# Altium schematic symbol library 2318_Métronome_Electronique_Library.SCHLIB: 42 symbols
Pins are listed as number, name and electrical type; pins without a type are passive.

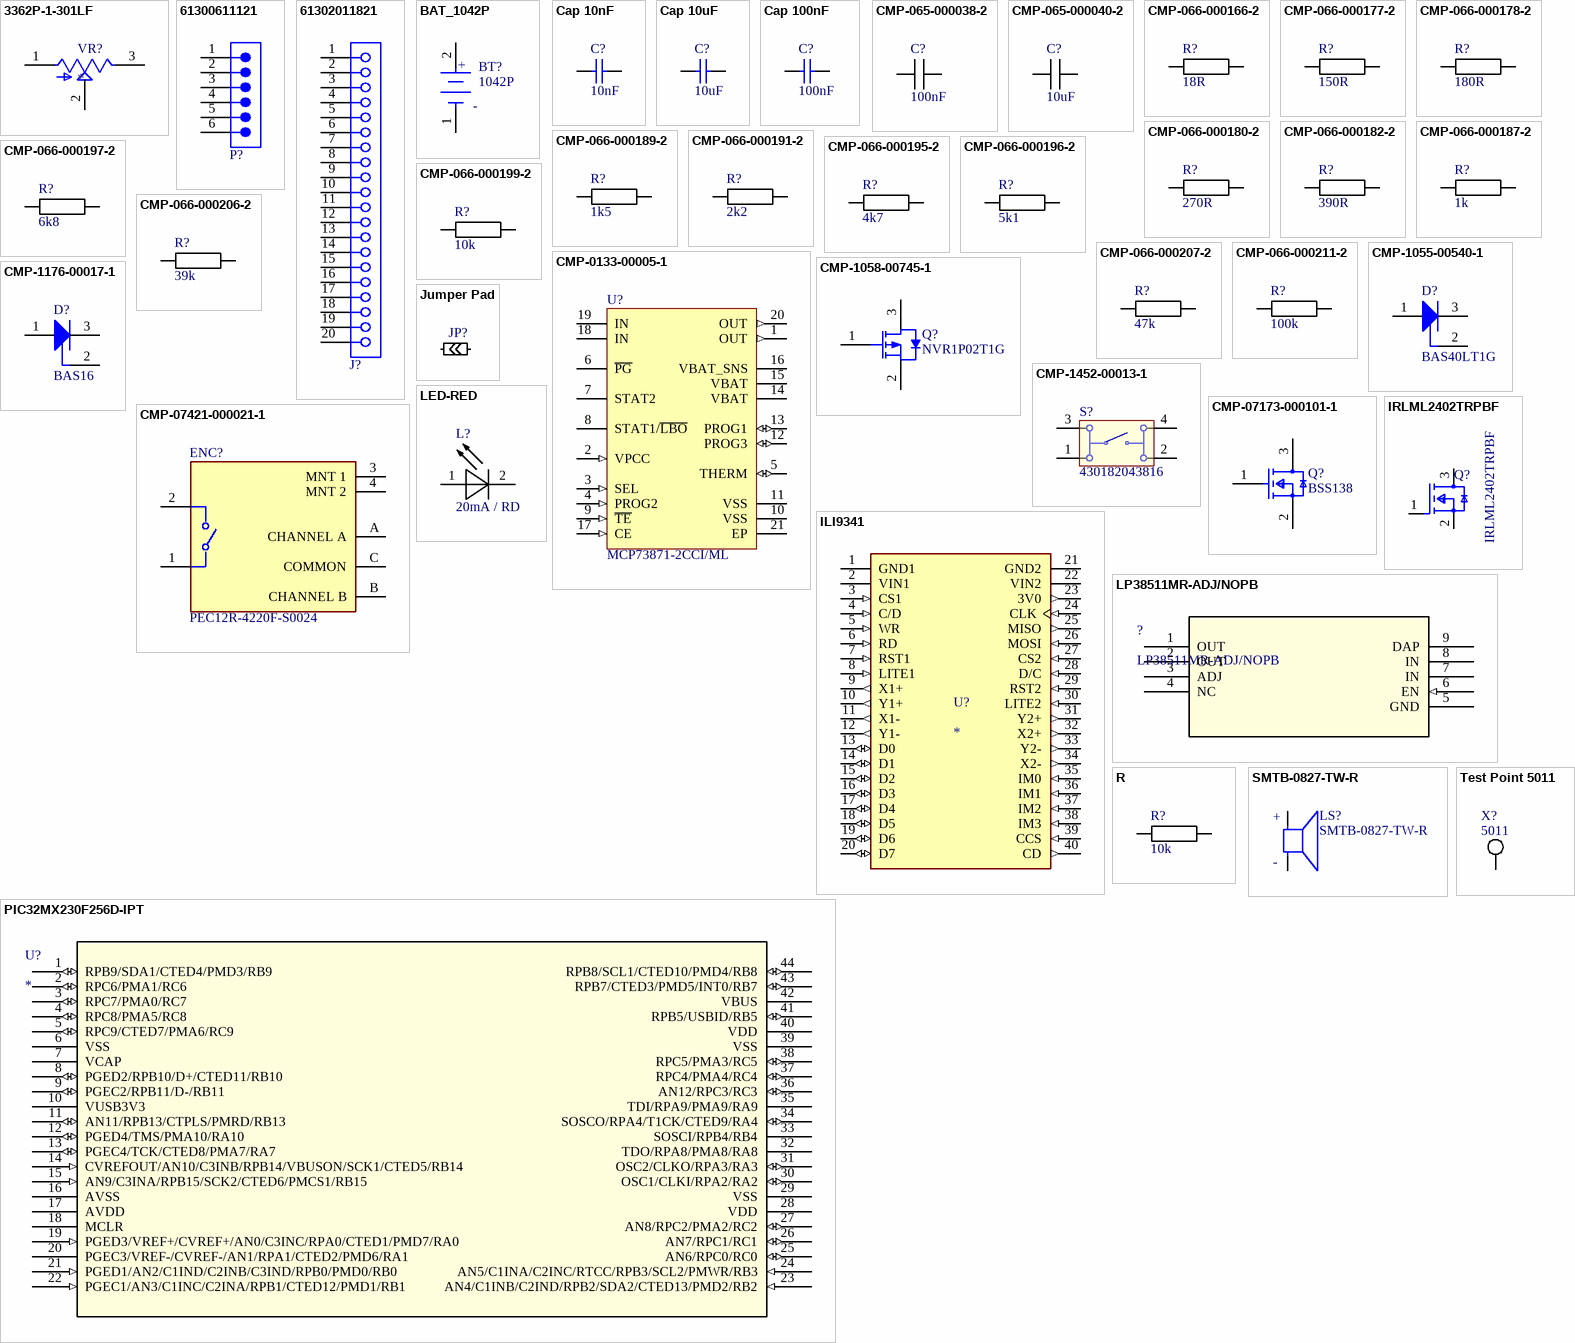
[diagram p0: symbols 3362P-1-301LF to Test Point 5011]

## 3362P-1-301LF
designator VR?
300 Ohms 0.5W, 1/2W PC Pins Through Hole Trimmer Potentiometer Cermet 1 Turn Top Adjustment; MF: Bourns; MP: 3362P-1-301LF; Package: 3362P-1 Bourns Inc.; Price: None; Availability: Bad; Check_prices: https://www.snapeda.com/parts/3362P-1-301LF/Bourns/view-part/620352/?ref=eda; SnapEDA_Link: https://www.snapeda.com/parts/3362P-1-301LF/Bourns/view-part/620352/?ref=snap; Value: *
footprint TRIM_3362P-1-301LF
pins: 1 CCW, 2 WIPER, 3 CW

## 61300611121
designator P?  (value not drawn)
WR-PHD Pin Header, THT, Vertical, pitch 2.54mm, 1 Row, 6P; Manufacturer: Wurth Elektronik; Contact Resistance: 20mOhm; Rated Current: 3A; Working Voltage: 250V; Withstanding Voltage: 500V; Manufacturer Part Number: 61300611121; Category: Board-to-Board Connectors; Match Code: WR-PHD; ComponentLink1Description: Website Link; ComponentLink1URL: https://www.we-online.com/redexpert/article/61300611121?ad; ComponentLink2Description: Datasheet Link; ComponentLink2URL: https://www.we-online.com/redexpert/spec/61300611121?ad; Mount: Through Hole; Operating Temperature Max: 105°C; Operating Temperature Min: -40°C; Packaging: Bag; Gender: Pin Header; Number of Pins: 6; Number of Rows: 1; Orientation: Vertical; Pitch: 2.54mm
footprint 61300611121 (Pin Header, pitch 2.54 mm, THT, Vertical, single row, 6p)
pins: 1, 2, 3, 4, 5, 6

## 61302011821
designator J?  (value not drawn)
WR-PHD Socket Header, THT, Vertical, pitch 2.54mm, 1 Row, 20P; Manufacturer: Wurth Elektronik; Contact Resistance: 20mOhm; Rated Current: 3A; Working Voltage: 250V; Withstanding Voltage: 500V; Manufacturer Part Number: 61302011821; Category: Board-to-Board Connectors; Match Code: WR-PHD; ComponentLink1Description: Website Link; ComponentLink1URL: https://www.we-online.com/redexpert/article/61302011821?ad; ComponentLink2Description: Datasheet Link; ComponentLink2URL: https://www.we-online.com/redexpert/spec/61302011821?ad; Mount: Through Hole; Operating Temperature Max: 105°C; Operating Temperature Min: -40°C; Packaging: Tray; Gender: Socket Header; Number of Pins: 20; Number of Rows: 1; Orientation: Vertical; Pitch: 2.54mm
footprint 61302011821 (Socket Header, Pitch 2.54 mm, THT, Vertical, single row, 20p)
pins: 1, 2, 3, 4, 5, 6, 7, 8, 9, 10, 11, 12, 13, 14, 15, 16, 17, 18, 19, 20

## BAT_1042P
designator BT?, comment 1042P
BATTERY HOLDER 18650 SMD TAB; Manufacturer: Keystone Electronics; Number of Cells: 1; Max Operating Temperature: 145°C; Termination: SMD/SMT; Mount: Surface Mount; Min Operating Temperature: -50°C; Package Quantity: 200; Packaging: Tray; Lead Free: Lead Free; Manufacturer Part Number: 1042P
footprint BAT_1042P
pins: 1 C, 2 A
text: +; -

## Cap 10nF
designator C?, comment value 10nF  (hidden comment: Cap)
Capacitor SMD, 10nF, (0805 M); Published: 8-Jun-2000; LatestRevisionDate: 17-Jul-2002; LatestRevisionNote: Re-released for DXP Platform.; PackageReference: RAD-0.3; Publisher: Altium Limited; PackageDescription: Radial Cap, Thru-Hole; 2 Leads; 0.3 in Pin Spacing
footprint CAPC2012X08M (Chip Capacitor, 2-Leads, Body 2.00x1.25mm, IPC Low Density)
pins: 1, 2

## Cap 10uF
designator C?, comment value 10uF  (hidden comment: Cap)
Capacitor SMD, 10uF, (0805 M); Published: 8-Jun-2000; LatestRevisionDate: 17-Jul-2002; LatestRevisionNote: Re-released for DXP Platform.; PackageReference: RAD-0.3; Publisher: Altium Limited; PackageDescription: Radial Cap, Thru-Hole; 2 Leads; 0.3 in Pin Spacing
footprint CAPC2012X08M (Chip Capacitor, 2-Leads, Body 2.00x1.25mm, IPC Low Density)
pins: 1, 2

## Cap 100nF
designator C?, comment value 100nF  (hidden comment: Cap)
Capacitor SMD,  100nF, (0805 M); Published: 8-Jun-2000; LatestRevisionDate: 17-Jul-2002; LatestRevisionNote: Re-released for DXP Platform.; PackageReference: RAD-0.3; Publisher: Altium Limited; PackageDescription: Radial Cap, Thru-Hole; 2 Leads; 0.3 in Pin Spacing
footprint CAPC2012X08M (Chip Capacitor, 2-Leads, Body 2.00x1.25mm, IPC Low Density)
pins: 1, 2

## CMP-065-000038-2
designator C?, comment 100nF
CAPC 100nF X7R 50V 10% 2012 (0805 INCH); Manufacturer Number: C2012X7R1H104K085AA; Manufacturer: TDK; IsStocked: 1; TemperatureRange: -55°C to +125°C; PN: PN-747862; Supplier Part Number 1: FAB.0805_C 100n; Supplier Price 1: 0.0200; Voltage: 50V; Dielectric: X7R; Value: 100nF; SubCategory: Condensateurs ceramique; Category: Passives; Tolerance: ±10%; Supplier 1: ETML; Manufacturer Part Number: C2012X7R1H104K085AA; Component Type: Passives
footprint CAPC2012X08M (Chip Capacitor, 2-Leads, Body 2.00x1.25mm, IPC Low Density)
pins: 1, 2

## CMP-065-000040-2
designator C?, comment 10uF
CAPC 10uF X5R 16V 10% 2012 (0805 INCH); Manufacturer Number: C2012X5R1C106K085AC; Manufacturer: TDK; IsStocked: 1; Value: 10µF; PN: PN-654987; TemperatureRange: -55°C to +85°C; Tolerance: ±10%; Voltage: 16V; SubCategory: Condensateurs ceramique; Dielectric: X5R; Supplier Part Number 1: FAB.0805_C 10u; Category: Passives; Supplier Price 1: 0.0360; Supplier 1: ETML; Manufacturer Part Number: C2012X5R1C106K085AC; Component Type: Passives
footprint CAPC2012X08M (Chip Capacitor, 2-Leads, Body 2.00x1.25mm, IPC Low Density)
pins: 1, 2

## CMP-066-000166-2
designator R?, comment 18R
RES 18ohm  ±1% 0.125W 2012 (0805 INCH); Manufacturer: Yageo; Manufacturer Number: RC0805FR-0718RL; TemperatureRange: -55°C to 155°C; TemperatureCoeff: ±200ppm/°C; Voltage: 150V; Value: 18; PN: PN-496535; IsStocked: 1; Category: Passives; Power: 0.125W; Supplier Price 1: 0.0200; Tolerance: ±1%; Supplier 1: ETML; Supplier Part Number 1: FAB.0805_R 18R; SubCategory: Resistances couche epaisse; Manufacturer Part Number: RC0805FR-0718RL; Component Type: Passives
footprint RESC2012X06M (Chip Resistor, 2-Leads, Body 2.00x1.25mm, IPC Low Density)
pins: 1, 2

## CMP-066-000177-2
designator R?, comment 150R
RES 150ohm  ±1% 0.125W 2012 (0805 INCH); Manufacturer: Yageo; Manufacturer Number: RC0805FR-07150RL; Value: 150; TemperatureRange: -55°C to 155°C; Voltage: 150V; TemperatureCoeff: ±200ppm/°C; PN: PN-455993; IsStocked: 1; Supplier Price 1: 0.0200; Tolerance: ±1%; SubCategory: Resistances couche epaisse; Power: 0.125W; Supplier Part Number 1: FAB.0805_R 150R; Supplier 1: ETML; Category: Passives; Manufacturer Part Number: RC0805FR-07150RL; Component Type: Passives
footprint RESC2012X06M (Chip Resistor, 2-Leads, Body 2.00x1.25mm, IPC Low Density)
pins: 1, 2

## CMP-066-000178-2
designator R?, comment 180R
RES 180ohm  ±1% 0.125W 2012 (0805 INCH); Manufacturer: Yageo; Manufacturer Number: RC0805FR-07180RL; Value: 180; TemperatureRange: -55°C to 155°C; TemperatureCoeff: ±200ppm/°C; PN: PN-125035; Voltage: 150V; IsStocked: 1; SubCategory: Resistances couche epaisse; Power: 0.125W; Tolerance: ±1%; Supplier 1: ETML; Supplier Price 1: 0.0200; Supplier Part Number 1: FAB.0805_R 180R; Category: Passives; Manufacturer Part Number: RC0805FR-07180RL; Component Type: Passives
footprint RESC2012X06M (Chip Resistor, 2-Leads, Body 2.00x1.25mm, IPC Low Density)
pins: 1, 2

## CMP-066-000180-2
designator R?, comment 270R
RES 270ohm  ±1% 0.125W 2012 (0805 INCH); Manufacturer Number: RC0805FR-07270RL; Manufacturer: Yageo; Voltage: 150V; IsStocked: 1; Value: 270; TemperatureRange: -55°C to 155°C; TemperatureCoeff: ±200ppm/°C; PN: PN-363118; SubCategory: Resistances couche epaisse; Supplier Part Number 1: FAB.0805_R 270R; Category: Passives; Power: 0.125W; Supplier 1: ETML; Supplier Price 1: 0.0200; Tolerance: ±1%; Manufacturer Part Number: RC0805FR-07270RL; Component Type: Passives
footprint RESC2012X06M (Chip Resistor, 2-Leads, Body 2.00x1.25mm, IPC Low Density)
pins: 1, 2

## CMP-066-000182-2
designator R?, comment 390R
RES 390ohm  ±1% 0.125W 2012 (0805 INCH); Manufacturer Number: RC0805FR-07390RL; Manufacturer: Yageo; Voltage: 150V; TemperatureCoeff: ±200ppm/°C; TemperatureRange: -55°C to 155°C; IsStocked: 1; Value: 390; PN: PN-601201; Tolerance: ±1%; Power: 0.125W; Supplier Part Number 1: FAB.0805_R 390R; Supplier 1: ETML; SubCategory: Resistances couche epaisse; Category: Passives; Supplier Price 1: 0.0200; Manufacturer Part Number: RC0805FR-07390RL; Component Type: Passives
footprint RESC2012X06M (Chip Resistor, 2-Leads, Body 2.00x1.25mm, IPC Low Density)
pins: 1, 2

## CMP-066-000187-2
designator R?, comment 1k
RES 1.0kohm  ±1% 0.125W 2012 (0805 INCH); Manufacturer: Yageo; Manufacturer Number: RC0805FR-071KL; PN: PN-746409; TemperatureRange: -55°C to 155°C; IsStocked: 1; TemperatureCoeff: ±200ppm/°C; Voltage: 150V; Supplier 1: ETML; Value: 1k; SubCategory: Resistances couche epaisse; Supplier Price 1: 0.0200; Supplier Part Number 1: FAB.0805_R 1k0; Category: Passives; Tolerance: ±1%; Power: 0.125W; Manufacturer Part Number: RC0805FR-071KL; Component Type: Passives
footprint RESC2012X06M (Chip Resistor, 2-Leads, Body 2.00x1.25mm, IPC Low Density)
pins: 1, 2

## CMP-066-000189-2
designator R?, comment 1k5
RES 1.5kohm  ±1% 0.125W 2012 (0805 INCH); Manufacturer Number: RC0805FR-071K5L; Manufacturer: Yageo; PN: PN-984492; Value: 1.5k; TemperatureRange: -55°C to 155°C; TemperatureCoeff: ±200ppm/°C; IsStocked: 1; Voltage: 150V; Supplier Price 1: 0.0200; Supplier Part Number 1: FAB.0805_R 1k5; Power: 0.125W; Supplier 1: ETML; Tolerance: ±1%; SubCategory: Resistances couche epaisse; Category: Passives; Manufacturer Part Number: RC0805FR-071K5L; Component Type: Passives
footprint RESC2012X06M (Chip Resistor, 2-Leads, Body 2.00x1.25mm, IPC Low Density)
pins: 1, 2

## CMP-066-000191-2
designator R?, comment 2k2
RES 2.2kohm  ±1% 0.125W 2012 (0805 INCH); Manufacturer Number: RC0805FR-072K2L; Manufacturer: Yageo; IsStocked: 1; Voltage: 150V; PN: PN-322576; Value: 2.2k; TemperatureCoeff: ±200ppm/°C; TemperatureRange: -55°C to 155°C; Supplier Price 1: 0.0200; SubCategory: Resistances couche epaisse; Supplier 1: ETML; Tolerance: ±1%; Category: Passives; Power: 0.125W; Supplier Part Number 1: FAB.0805_R 2k2; Manufacturer Part Number: RC0805FR-072K2L; Component Type: Passives
footprint RESC2012X06M (Chip Resistor, 2-Leads, Body 2.00x1.25mm, IPC Low Density)
pins: 1, 2

## CMP-066-000195-2
designator R?, comment 4k7
RES 4.7kohm  ±1% 0.125W 2012 (0805 INCH); Manufacturer: Yageo; Manufacturer Number: RC0805FR-074K7L; Value: 4.7k; Voltage: 150V; IsStocked: 1; PN: PN-798742; TemperatureCoeff: ±200ppm/°C; TemperatureRange: -55°C to 155°C; Power: 0.125W; Supplier Price 1: 0.0200; Category: Passives; Supplier Part Number 1: FAB.0805_R 4k7; Supplier 1: ETML; SubCategory: Resistances couche epaisse; Tolerance: ±1%; Manufacturer Part Number: RC0805FR-074K7L; Component Type: Passives
footprint RESC2012X06M (Chip Resistor, 2-Leads, Body 2.00x1.25mm, IPC Low Density)
pins: 1, 2

## CMP-066-000196-2
designator R?, comment 5k1
RES 5.1kohm (0805 INCH); Manufacturer: Yageo; Manufacturer Number: RC0805FR-075K1L; Manufacturer Part Number: RC0805FR-075K6L; Power: 0.125W; Tolerance: ±1%; IsStocked: 1; PN: PN-467784; TemperatureRange: -55°C to 155°C; Value: 5.1k; Voltage: 150V; TemperatureCoeff: ±200ppm/°C; Supplier Part Number 1: FAB.0805_R 5k1; Supplier Price 1: 0.0800; Supplier 1: ES; Category: Passives; SubCategory: Resistances couche epaisse; Component Type: Passives
footprint RESC2012X06M (Chip Resistor, 2-Leads, Body 2.00x1.25mm, IPC Low Density)
pins: 1, 2

## CMP-066-000197-2
designator R?, comment 6k8
RES 6.8kohm  ±1% 0.125W 2012 (0805 INCH); Manufacturer Number: RC0805FR-076K8L; Manufacturer: Yageo; PN: PN-136826; TemperatureRange: -55°C to 155°C; Value: 6.8k; Voltage: 150V; TemperatureCoeff: ±200ppm/°C; IsStocked: 1; Category: Passives; SubCategory: Resistances couche epaisse; Supplier 1: ETML; Supplier Price 1: 0.0200; Power: 0.125W; Supplier Part Number 1: FAB.0805_R 6k8; Tolerance: ±1%; Manufacturer Part Number: RC0805FR-076K8L; Component Type: Passives
footprint RESC2012X06M (Chip Resistor, 2-Leads, Body 2.00x1.25mm, IPC Low Density)
pins: 1, 2

## CMP-066-000199-2
designator R?, comment 10k
RES 10kohm  ±1% 0.125W 2012 (0805 INCH); Manufacturer Number: RC0805FR-0710KL; Manufacturer: Yageo; PN: PN-374909; TemperatureCoeff: ±200ppm/°C; Voltage: 150V; TemperatureRange: -55°C to 155°C; IsStocked: 1; Tolerance: ±1%; Category: Passives; Value: 10k; Supplier Price 1: 0.0200; Supplier Part Number 1: FAB.0805_R 10k; Supplier 1: ETML; SubCategory: Resistances couche epaisse; Power: 0.125W; Manufacturer Part Number: RC0805FR-0710KL; Component Type: Passives
footprint RESC2012X06M (Chip Resistor, 2-Leads, Body 2.00x1.25mm, IPC Low Density)
pins: 1, 2

## CMP-066-000206-2
designator R?, comment 39k
RES 39kohm  ±1% 0.125W 2012 (0805 INCH); Manufacturer: Yageo; Manufacturer Number: RC0805FR-0739KL; IsStocked: 1; TemperatureRange: -55°C to 155°C; TemperatureCoeff: ±200ppm/°C; PN: PN-758200; Voltage: 150V; Category: Passives; Value: 39k; Supplier Price 1: 0.0200; Power: 0.125W; SubCategory: Resistances couche epaisse; Supplier 1: ETML; Tolerance: ±1%; Supplier Part Number 1: FAB.0805_R 39k; Manufacturer Part Number: RC0805FR-0739KL; Component Type: Passives
footprint RESC2012X06M (Chip Resistor, 2-Leads, Body 2.00x1.25mm, IPC Low Density)
pins: 1, 2

## CMP-066-000207-2
designator R?, comment 47k
RES 47kohm  ±1% 0.125W 2012 (0805 INCH); Manufacturer Number: RC0805FR-0747KL; Manufacturer: Yageo; TemperatureRange: -55°C to 155°C; Voltage: 150V; IsStocked: 1; TemperatureCoeff: ±200ppm/°C; PN: PN-427242; Category: Passives; Supplier Price 1: 0.0200; Power: 0.125W; Supplier 1: ETML; Tolerance: ±1%; SubCategory: Resistances couche epaisse; Supplier Part Number 1: FAB.0805_R 47k; Value: 47k; Manufacturer Part Number: RC0805FR-0747KL; Component Type: Passives
footprint RESC2012X06M (Chip Resistor, 2-Leads, Body 2.00x1.25mm, IPC Low Density)
pins: 1, 2

## CMP-066-000211-2
designator R?, comment 100k
RES 100kohm  ±1% 0.125W 2012 (0805 INCH); Manufacturer: Yageo; Manufacturer Number: RC0805FR-07100KL; TemperatureCoeff: ±200ppm/°C; Voltage: 150V; TemperatureRange: -55°C to 155°C; IsStocked: 1; PN: PN-903408; Category: Passives; Supplier Part Number 1: FAB.0805_R 100k; Value: 100k; Tolerance: ±1%; Supplier Price 1: 0.0200; Power: 0.125W; SubCategory: Resistances couche epaisse; Supplier 1: ETML; Manufacturer Part Number: RC0805FR-07100KL; Component Type: Passives
footprint RESC2012X06M (Chip Resistor, 2-Leads, Body 2.00x1.25mm, IPC Low Density)
pins: 1, 2

## CMP-0133-00005-1
designator U?, comment MCP73871-2CCI/ML
Stand-Alone System Load Sharing and Li-Ion/Li-Polymer Battery Charge Management Controller, 4.2V, 20-Pin QFN, Industrial Temperature; Manufacturer: Microchip; PackageDescription: 20-Lead Plastic Quad Flat, No Lead Package (ML) - 4x4x0.9 mm Body [QFN]; PackageReference: QFN-ML20; PackageVersion: revBB, Aug-2009; DatasheetVersion: revB, May-2009; Manufacturer Part Number: MCP73871-2CCI/ML
footprint QFN-ML20_M (QFN, 20-Leads, Body 4x4mm, Pitch 0.5mm, Thermal Pad 2.8x2.8mm, IPC Low Density)
pins: 1 OUT (out), 2 VPCC (in), 3 SEL (in), 4 PROG2 (in), 5 THERM (io), 6 ~{PG} (oc), 7 STAT2 (oc), 8 STAT1/~{LBO} (oc), 9 ~{TE} (in), 10 VSS (power), 11 VSS (power), 12 PROG3 (io), 13 PROG1 (io), 14 VBAT (power), 15 VBAT (power), 16 VBAT_SNS (power), 17 CE (in), 18 IN (power), 19 IN (power), 20 OUT (out), 21 EP (power)

## CMP-1055-00540-1
designator D?, comment BAS40LT1G
Schottky Barrier Diode, 3-Pin SOT-23, Pb-Free, Tape and Reel; Manufacturer: On Semiconductor; Configuration: Single; ComponentLink3Description: Package Specification; ComponentLink1URL: http://www.onsemi.com/; ComponentLink2Description: Datasheet; PackageDescription: 3-Pin Small Outline Transistor, Body 2.92 x 1.3 mm, Pitch 0.95 mm; ComponentLink3URL: http://www.onsemi.cn/pub_link/Collateral/318-08.PDF; PartNumber: BAS40LT1G; DatasheetVersion: Rev. 10; Packing: Tape and Reel; PackageReference: SOT-23-3-318-08; ComponentLink1Description: Manufacturer URL; ComponentLink2URL: http://www.onsemi.cn/pub_link/Collateral/BAS40LT1-D.PDF; RoHS: TRUE; Mounting Technology: Surface Mount; PackageVersion: Rev. AP, 11/2009; Manufacturer: ON Semiconductor; Manufacturer Part Number: BAS40LT1G
footprint ONSC-SOT-23-3-318-08_V (SOT23, 3-Leads, Body 2.92x1.3mm, Pitch 0.95mm)
pins: 1 A, 2 NC, 3 K

## CMP-1058-00745-1
designator Q?, comment NVR1P02T1G
Power MOSFET, -20 V, -1 A, P-Channel, 3-Pin SOT-23, Pb-Free, Tape and Reel; Manufacturer: On Semiconductor; Ciss Typ (pF): 165; Configuration: Single; VGS(th) Max (V): 2.3; Channel Polarity: P Channel; V(BR)DSS Min (V): 20; ID Max (A): 1; Coss Typ (pF): 110; Qrr Typ (nC): 8; Crss Typ (pF): 35; PD Max (W): 0.4; DatasheetVersion: Rev. 7; ComponentLink1Description: Manufacturer URL; PackageReference: SOT-23-3-318-08; ComponentLink2Description: Datasheet; ComponentLink2URL: http://www.onsemi.cn/pub_link/Collateral/NTR1P02T1-D.PDF; Packing: Tape and Reel; Package Type: SOT-23-3; ComponentLink1URL: http://www.onsemi.com/; RoHS: Pb-Free; PartNumber: NVR1P02T1G; PackageVersion: Rev. AP, 11/2009; PackageDescription: 3-Pin Small Outline Transistor, Body 2.92 x 1.3 mm, Pitch 0.95 mm; ComponentLink3URL: http://www.onsemi.cn/pub_link/Collateral/318-08.PDF; ComponentLink3Description: Package Specification; VGS Max (V): 20; Mounting Technology: Surface Mount; Manufacturer: ON Semiconductor; Manufacturer Part Number: NVR1P02T1G
footprint SOT95P237X112-3N
pins: 1 G, 2 S, 3 D

## CMP-1176-00017-1
designator D?, comment BAS16
Silicon Switching Diode, SOT23, Reel, Green; Manufacturer: Infineon; VR (max): 80Â V; VBR (min): 85Â V; Configuration: Single; Green: TRUE; VF (max): 1.25Â V; trr (max): 4Â ns; IF (max): 250Â mA; IR (max): 100Â nA; ComponentLink3Description: Package Specification; PackageVersion: Apr-08; PackageReference: SOT23; ComponentLink2URL: http://www.infineon.com/dgdl/bas16series.pdf?folderId=db3a30431400ef6801141b5844e103ea&fileId=db3a30431400ef6801141b93811b03ff; Mounting Technology: Surface Mount; PartNumber: BAS16; ComponentLink2Description: Datasheet; ComponentLink1Description: Manufacturer URL; ComponentLink1URL: http://www.infineon.com/; ComponentLink3URL: http://www.infineon.com/dgdl/SOT23-Package_Overview.pdf?folderId=db3a30431936bc4b0119532290053c66&fileId=db3a30431936bc4b0119533468123c85; PackageDescription: 3-Pin Small Outline Transistor Package, 1.3 x 2.9 mm Body, 0.95 mm Pitch; Manufacturer Part Number: BAS16
footprint INF-SOT23_L (SOT23, 3-Leads, Body 2.9x1.3 mm, Pitch 0.95 mm, IPC High Density)
footprint INF-SOT23_N (SOT23, 3-Leads, Body 2.9x1.3 mm, Pitch 0.95 mm, IPC Medium Density)
footprint INF-SOT23_M (SOT23, 3-Leads, Body 2.9x1.3 mm, Pitch 0.95 mm, IPC Low Density)
pins: 1 A, 2 NC, 3 K

## CMP-1452-00013-1
designator S?, comment 430182043816
WS-TASV SMD Tact Switch 6X6 mm; Manufacturer: Wuerth Elektronik; Manufacturer: Wurth Electronics; NoPins: 04; ComponentLink2Description: Datasheet; PackageReference: 430182043816; ComponentLink2URL: http://katalog.we-online.de/em/datasheet/4301x2.pdf; ComponentLink1URL: http://www.we-online.com; PartNumber: 430182043816; ComponentLink1Description: Manufacturer URL; Manufacturer Part Number: 430182043816
footprint 430182043816 (6*6mm vertical type, SMD, height 4.3mm, black actuator, 160gf, T&R)
pins: 1, 2, 3, 4

## CMP-07173-000101-1
designator Q?, comment BSS138
MOSFET N-CH 50V 220MA SOT-23; Manufacturer: ON Semiconductor / Fairchild; Turn-Off Delay Time: 20ns; Element Configuration: Single; Rds On Max: 3.5R; Gate to Source Voltage (Vgs): 20V; Threshold Voltage: 1.3V; Number of Elements: 1; Power Dissipation: 360mW; Rise Time: 9ns; Turn-On Delay Time: 2.5ns; Input Capacitance: 27pF; On-State Resistance: 6R; Lead Free: Lead Free; Length: 2.92mm; Width: 1.3mm; Drain to Source Breakdown Voltage: 50V; Min Operating Temperature: -55°C; REACH SVHC: No SVHC; Packaging: Tape and Reel; Radiation Hardening: No; Height: 0.93mm; Drain to Source Voltage (Vdss): 50V; Current Rating: 220mA; Voltage Rating (DC): 50V; Weight: 0.03g; Continuous Drain Current (ID): 220mA; Number of Pins: 3; Nominal Vgs: 1.3V; Max Power Dissipation: 360mW; Fall Time: 9ns; Drain to Source Resistance: 3.5R; Contact Plating: Tin; Case/Package: SOT-23; Package Quantity: 1; Dual Supply Voltage: 50V; Mount: Surface Mount; Termination: SMD/SMT; Max Operating Temperature: 150°C; Manufacturer Part Number: BSS138
footprint SOT95P237X112-3N
pins: 1 G, 2 S, 3 D

## CMP-07421-000021-1
designator ENC?, comment PEC12R-4220F-S0024
ROTARY ENCODER MECHANICAL 24PPR; Manufacturer: Bourns; Built in Switch: Yes; Pulses per Revolution: 24; Output Type: Quadrature; Hole Diameter: 2mm; Number of Channels: 2; Max Supply Voltage (DC): 5V; RoHS Compliant: Yes; Max Operating Temperature: 70°C; Length: 26mm; Width: 12.5mm; Encoder Type: Mechanical; Series: PEC12R; Mount: Through Hole; Height: 13.4mm; Packaging: Bulk; Package Quantity: 150; Termination: PC Pin; Min Operating Temperature: -30°C; REACH SVHC: No SVHC; Detent: Yes; Orientation: Vertical; Manufacturer Part Number: PEC12R-4220F-S0024
footprint FP-PEC12R-4220F-S0024-MFG
pins: 1, 2, 3 MNT 1, 4 MNT 2, A CHANNEL A, B CHANNEL B, C COMMON

## ILI9341
designator U?
Resistive Graphic LCD Display Module Red, Green, Blue (RGB) TFT - Color Parallel, 8-Bit, SPI 2.4 (60.96mm) 240 x 320; MF: Adafruit Industries; MP: 2478; Package: NON STANDARD Adafruit; Price: None; Value: *; SnapEDA_Link: https://www.snapeda.com/parts/2478/Adafruit+Industries+LLC/view-part/?ref=snap; Availability: In Stock; Check_prices: https://www.snapeda.com/parts/2478/Adafruit+Industries+LLC/view-part/?ref=eda
footprint ADAFRUIT_2478_V2
pins: 1 GND1 (power), 2 VIN1 (power), 3 CS1 (in), 4 C/D (in), 5 WR (in), 6 RD (in), 7 RST1 (in), 8 LITE1 (in), 9 X1+ (out), 10 Y1+ (out), 11 X1- (out), 12 Y1- (out), 13 D0 (io), 14 D1 (io), 15 D2 (io), 16 D3 (io), 17 D4 (io), 18 D5 (io), 19 D6 (io), 20 D7 (io), 21 GND2 (power), 22 VIN2 (power), 23 3V0 (out), 24 CLK (in), 25 MISO (out), 26 MOSI (in), 27 CS2 (in), 28 D/C (in), 29 RST2 (in), 30 LITE2 (in), 31 Y2+ (out), 32 X2+ (out), 33 Y2- (out), 34 X2- (out), 35 IM0 (in), 36 IM1 (in), 37 IM2 (in), 38 IM3 (in), 39 CCS (in), 40 CD (out)

## IRLML2402TRPBF
designator Q?
MOSFET N-CH 20V 1.2A SOT-23; Max Power Dissipation: 540mW; Gate to Source Voltage (Vgs): 12V; Drain to Source Resistance: 350mR; Rise Time: 9.5ns; Threshold Voltage: 700mV; Turn-On Delay Time: 2.5ns; Input Capacitance: 110pF; Element Configuration: Single; Power Dissipation: 540W; Turn-Off Delay Time: 9.7ns; Rds On Max: 250mR; REACH SVHC: No SVHC; Mount: Surface Mount; Packaging: Tape and Reel; Height: 0.04inch; Drain to Source Voltage (Vdss): 20V; Length: 0.119inch; Contact Plating: Tin; Continuous Drain Current (ID): 1.2A; Lead Free: Lead Free; Drain to Source Breakdown Voltage: 20V; Max Dual Supply Voltage: 20V; Number of Pins: 3; Halogen Free: Halogen Free; Max Operating Temperature: 150°C; Case/Package: SOT-23; Min Operating Temperature: -55°C; Width: 0.055inch
footprint SOT95P237X112-3N
pins: 1 G, 2 S, 3 D

## Jumper Pad
designator JP?  (value not drawn)
SMD Jumper
footprint Jumper SMD (Jumper à souder)
pins: 1, 2

## LED-RED
designator L?, comment 20mA / RD
LED SMD (0805) 20 mA 1.8V 645nm Red; Manufacturer Number: L-424IDT; Manufacturer: Kingbright; PN: PN-643196; TemperatureRange: -40°C to +85°C; Voltage: 2V; IsStocked: False; Supplier 1: Farnell; SubCategory: Leds; Supplier Part Number 1: 1142497; Value: 20mA/RD; Supplier Price 1: 0.504; Current: 20mA; Category: Optoelectronics; Component Type: Optoelectronics
footprint Kingbright_L-424IDT (Cyclindrical red 3mm LED)
pins: 1 A, 2 K

## LP38511MR-ADJ/NOPB
designator ?
No Description Available; Mfr_Name: Texas Instruments; Copyright: Copyright (C) 2023 Ultra Librarian. All rights reserved.; Manufacturer_Part_Number: LP38511MR-ADJ/NOPB; RefDes: RefDes; Type: DEV
footprint MRA08B
pins: 1 OUT (power), 2 OUT (power), 3 ADJ, 4 NC, 5 GND (power), 6 EN (in), 7 IN (power), 8 IN (power), 9 DAP

## PIC32MX230F256D-IPT
designator U?
No Description Available; Mfr_Name: Microchip; RefDes: RefDes; Type: Type
footprint TQFP44_PT_MCH
pins: 1 RPB9/SDA1/CTED4/PMD3/RB9 (io), 2 RPC6/PMA1/RC6 (io), 3 RPC7/PMA0/RC7 (io), 4 RPC8/PMA5/RC8 (io), 5 RPC9/CTED7/PMA6/RC9 (io), 6 VSS (power), 7 VCAP (power), 8 PGED2/RPB10/D+/CTED11/RB10 (io), 9 PGEC2/RPB11/D-/RB11 (io), 10 VUSB3V3 (power), 11 AN11/RPB13/CTPLS/PMRD/RB13 (io), 12 PGED4/TMS/PMA10/RA10 (io), 13 PGEC4/TCK/CTED8/PMA7/RA7 (io), 14 CVREFOUT/AN10/C3INB/RPB14/VBUSON/SCK1/CTED5/RB14 (in), 15 AN9/C3INA/RPB15/SCK2/CTED6/PMCS1/RB15 (in), 16 AVSS (power), 17 AVDD (power), 18 MCLR, 19 PGED3/VREF+/CVREF+/AN0/C3INC/RPA0/CTED1/PMD7/RA0 (in), 20 PGEC3/VREF-/CVREF-/AN1/RPA1/CTED2/PMD6/RA1 (power), 21 PGED1/AN2/C1IND/C2INB/C3IND/RPB0/PMD0/RB0 (in), 22 PGEC1/AN3/C1INC/C2INA/RPB1/CTED12/PMD1/RB1 (in), 23 AN4/C1INB/C2IND/RPB2/SDA2/CTED13/PMD2/RB2 (in), 24 AN5/C1INA/C2INC/RTCC/RPB3/SCL2/PMWR/RB3 (in), 25 AN6/RPC0/RC0 (io), 26 AN7/RPC1/RC1 (io), 27 AN8/RPC2/PMA2/RC2 (io), 28 VDD (power), 29 VSS (power), 30 OSC1/CLKI/RPA2/RA2 (io), 31 OSC2/CLKO/RPA3/RA3 (io), 32 TDO/RPA8/PMA8/RA8, 33 SOSCI/RPB4/RB4, 34 SOSCO/RPA4/T1CK/CTED9/RA4 (io), 35 TDI/RPA9/PMA9/RA9, 36 AN12/RPC3/RC3 (io), 37 RPC4/PMA4/RC4 (io), 38 RPC5/PMA3/RC5 (io), 39 VSS (power), 40 VDD (power), 41 RPB5/USBID/RB5 (io), 42 VBUS, 43 RPB7/CTED3/PMD5/INT0/RB7 (io), 44 RPB8/SCL1/CTED10/PMD4/RB8 (io)

## R
designator R?, comment 10k
Resistor 0805 M; Supplier 1: ETML; Supplier 1 Price: 0.00
footprint RESC2012X06M (Chip Resistor, 2-Leads, Body 2.00x1.25mm, IPC Low Density)
pins: 1, 2

## SMTB-0827-TW-R
designator LS?
SURFACE MOUNT TRANSDUCER 3.6 V0-P; MF: PUI Audio, Inc.; Purchase-URL: https://pricing.snapeda.com/search/part/SMTB-0827-TW-R/?ref=eda; Package: None; Digi-Key_Part_Number: 668-SMTB-0827-TW-RTR-ND; MP: SMTB-0827-TW-R; Check_prices: https://www.snapeda.com/parts/SMTB-0827-TW-R/PUI+Audio%252C+Inc./view-part/?ref=eda; SnapEDA_Link: https://www.snapeda.com/parts/SMTB-0827-TW-R/PUI+Audio%252C+Inc./view-part/?ref=snap; Value: *
footprint XDCR_SMTB-0827-TW-R
pins: N NEG, P POS
text: +; -

## Test Point 5011
designator X?, comment 5011
TEST THT MULTIPURPOSE BK, CMP-054-000005-1; Manufacturer: Keystone; Manufacturer: Keystone Electronics; IsStocked: True; PN: PN-926990; Supplier 1: ETML; Value: 5011; Manufacturer Number: 5011; Supplier Part Number 1: MAG.428.014; Category: Connectors; SubCategory: Testpoints; Supplier Price 1: 0.2439; Manufacturer Part Number: 5011; Component Type: Connectors
footprint Keystone_5011
pins: 1 TP

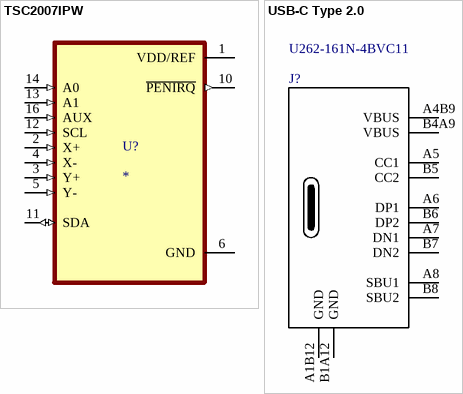
[diagram p1: symbols TSC2007IPW to USB-C Type 2.0]

## TSC2007IPW
designator U?
12-Bit, nanopower, 4-wire micro touch screen controller &nbsp; 16-TSSOP -40 to 85; MP: TSC2007IPW; MF: Texas Instruments; Digi-Key_Part_Number: 296-42398-2-ND; Purchase-URL: https://pricing.snapeda.com/search/part/TSC2007IPW/?ref=eda; Package: TSSOP-16 Texas Instruments; Value: *; SnapEDA_Link: https://www.snapeda.com/parts/TSC2007IPW/Texas%20Instruments/view-part/291616/?ref=snap; Check_prices: https://www.snapeda.com/parts/TSC2007IPW/Texas%20Instruments/view-part/291616/?ref=eda
footprint SOP65P640X120-16N (TSC2007IPW, Touchscreen Controller)
pins: 1 VDD/REF (power), 2 X+ (in), 3 Y+ (in), 4 X- (in), 5 Y- (in), 6 GND (power), 10 ~{PENIRQ} (out), 11 SDA (io), 12 SCL (in), 13 A1 (in), 14 A0 (in), 16 AUX (in)

## USB-C Type 2.0
designator J?, comment U262-161N-4BVC11
U262-161N-4BVC11 / XKB Connectivity; ComponentLink1Description: LCSC  C319148; ComponentLink1URL: https://lcsc.com/product-detail/USB-Connectors_XKB-Connectivity-U262-161N-4BVC11_C319148.html; Supplier 1: LCSC; Supplier Part Number 1: C319148
footprint GCT_USB4105-GF-A
pins: A1B12 GND, A4B9 VBUS, A5 CC1, A6 DP1, A7 DN1, A8 SBU1, B1A12 GND, B4A9 VBUS, B5 CC2, B6 DP2, B7 DN2, B8 SBU2